# EAGLE library part LM358DR (library maus)
LM358DR dual op-amp
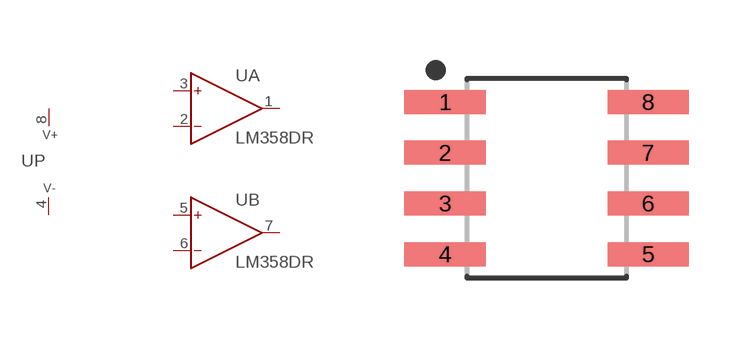
[diagram p3: symbol with the pads of SOIC127P610X175-8N; footprint SOIC127P610X175-8N]

Designator prefix U; gates A=OP B=OP P=TLC450P

## LM358DR  [SOIC127P610X175-8N]
1  A:OUT  out
2  A:IN-  in
3  A:IN+  in
4  P:V-  pwr
5  B:IN+  in
6  B:IN-  in
7  B:OUT  out
8  P:V+  pwr

## Footprint SOIC127P610X175-8N (pad centres in mm)
8-SOIC, 1.27 mm pitch, 6.10 mm span, 4.91 X 3.90 X 1.75 mm body 8-pin SOIC package with 1.27 mm pitch, 6.10 mm span with body size 4.91 X 3.90 X 1.75 mm
smd 2.035 x 0.599: 1 -2.538,1.905; 2 -2.538,0.635; 3 -2.538,-0.635; 4 -2.538,-1.905; 5 2.538,-1.905; 6 2.538,-0.635; 7 2.538,0.635; 8 2.538,1.905